# EAGLE library part STM32F405RGT6 (library tecsmith_stm32)
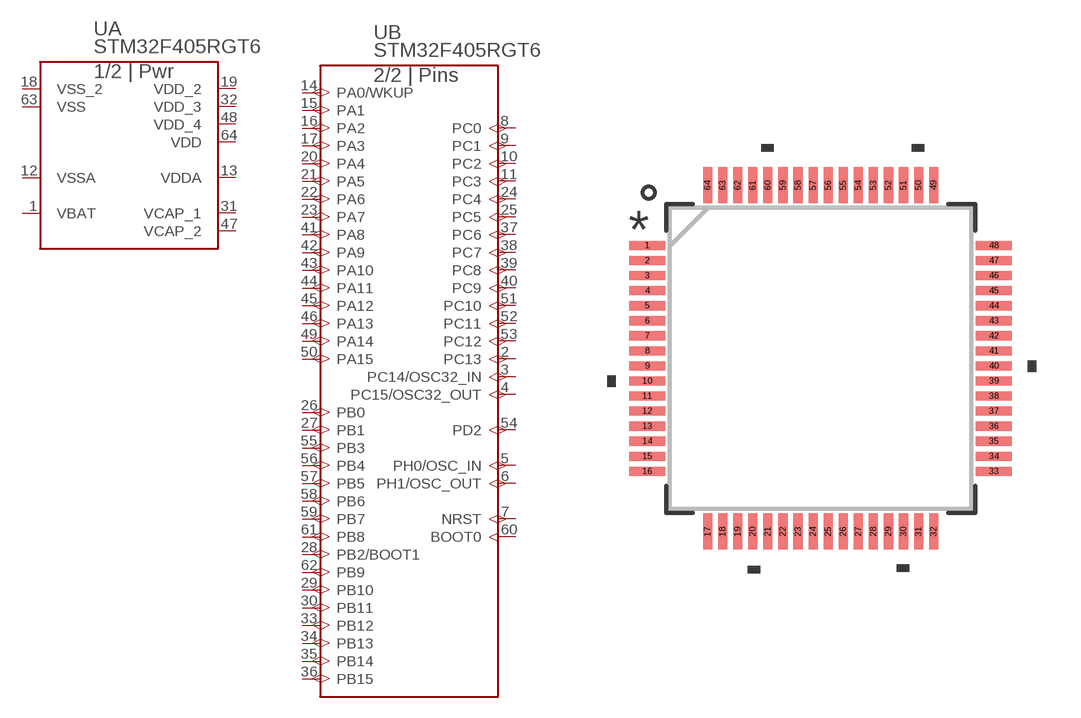
[diagram p3: symbol with the pads of LQFP64-10X10MM; footprint LQFP64-10X10MM]

Designator prefix -; gates A=STM32F4X5RG B=STM32F4X5RG_1

## STM32F405RGT6  [LQFP64-10X10MM]
1  A:VBAT  pwr
2  B:PC13
3  B:PC14/OSC32_IN
4  B:PC15/OSC32_OUT
5  B:PH0/OSC_IN
6  B:PH1/OSC_OUT
7  B:NRST
8  B:PC0
9  B:PC1
10  B:PC2
11  B:PC3
12  A:VSSA  pwr
13  A:VDDA  pwr
14  B:PA0/WKUP
15  B:PA1
16  B:PA2
17  B:PA3
18  A:VSS_2  pwr
19  A:VDD_2  pwr
20  B:PA4
21  B:PA5
22  B:PA6
23  B:PA7
24  B:PC4
25  B:PC5
26  B:PB0
27  B:PB1
28  B:PB2/BOOT1
29  B:PB10
30  B:PB11
31  A:VCAP_1  pwr
32  A:VDD_3  pwr
33  B:PB12
34  B:PB13
35  B:PB14
36  B:PB15
37  B:PC6
38  B:PC7
39  B:PC8
40  B:PC9
41  B:PA8
42  B:PA9
43  B:PA10
44  B:PA11
45  B:PA12
46  B:PA13
47  A:VCAP_2  pwr
48  A:VDD_4  pwr
49  B:PA14
50  B:PA15
51  B:PC10
52  B:PC11
53  B:PC12
54  B:PD2
55  B:PB3
56  B:PB4
57  B:PB5
58  B:PB6
59  B:PB7
60  B:BOOT0  in
61  B:PB8
62  B:PB9
63  A:VSS  pwr
64  A:VDD  pwr

## Footprint LQFP64-10X10MM (pad centres in mm)
smd 1.194 x 0.305: 1 -5.75,3.75; 2 -5.75,3.25; 3 -5.75,2.75; 4 -5.75,2.25; 5 -5.75,1.75; 6 -5.75,1.25; 7 -5.75,0.75; 8 -5.75,0.25; 9 -5.75,-0.25; 10 -5.75,-0.75; 11 -5.75,-1.25; 12 -5.75,-1.75; 13 -5.75,-2.25; 14 -5.75,-2.75; 15 -5.75,-3.25; 16 -5.75,-3.75; 33 5.75,-3.75; 34 5.75,-3.25; 35 5.75,-2.75; 36 5.75,-2.25; 37 5.75,-1.75; 38 5.75,-1.25; 39 5.75,-0.75; 40 5.75,-0.25; 41 5.75,0.25; 42 5.75,0.75; 43 5.75,1.25; 44 5.75,1.75; 45 5.75,2.25; 46 5.75,2.75; 47 5.75,3.25; 48 5.75,3.75
smd 0.305 x 1.194: 17 -3.75,-5.75; 18 -3.25,-5.75; 19 -2.75,-5.75; 20 -2.25,-5.75; 21 -1.75,-5.75; 22 -1.25,-5.75; 23 -0.75,-5.75; 24 -0.25,-5.75; 25 0.25,-5.75; 26 0.75,-5.75; 27 1.25,-5.75; 28 1.75,-5.75; 29 2.25,-5.75; 30 2.75,-5.75; 31 3.25,-5.75; 32 3.75,-5.75; 49 3.75,5.75; 50 3.25,5.75; 51 2.75,5.75; 52 2.25,5.75; 53 1.75,5.75; 54 1.25,5.75; 55 0.75,5.75; 56 0.25,5.75; 57 -0.25,5.75; 58 -0.75,5.75; 59 -1.25,5.75; 60 -1.75,5.75; 61 -2.25,5.75; 62 -2.75,5.75; 63 -3.25,5.75; 64 -3.75,5.75